# Altium integrated library con-phoenix-mkds_5.IntLib: 3 symbols
Pins are listed as number, name and electrical type; pins without a type are passive.

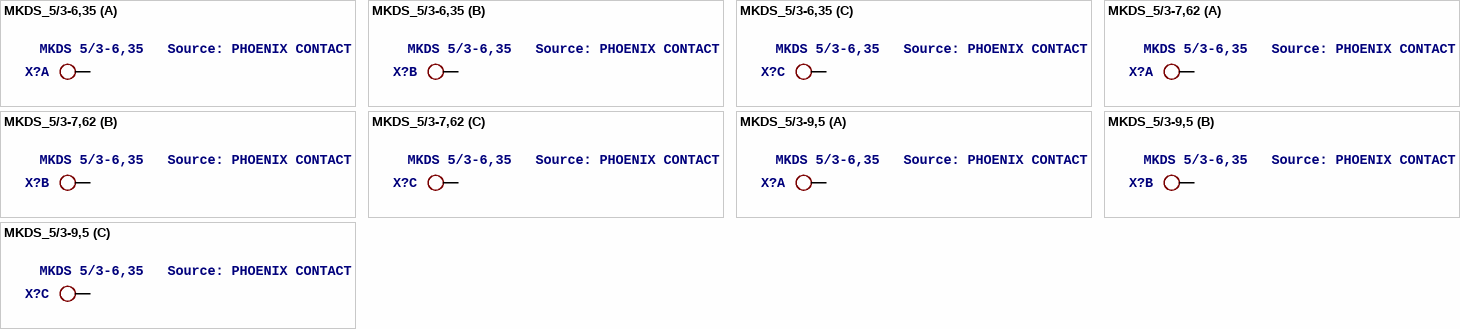
[diagram p0: symbols MKDS_5/3-6,35 to MKDS_5/3-9,5]

## MKDS_5/3-6,35
designator X?, comment MKDS 5/3-6,35   Source: PHOENIX CONTACT
MPN: 1714968; MF: FARNELL; OC_FARNELL: 3704695; OC_NEWARK: 71C4092
footprint MKDS_5/3-635
part A pins: 1 KL
part B pins: 2 KL
part C pins: 3 KL

## MKDS_5/3-7,62
designator X?, comment MKDS 5/3-6,35   Source: PHOENIX CONTACT
OC_FARNELL: unknown; OC_NEWARK: unknown
footprint MKDS_5/3-762
part A pins: 1 KL
part B pins: 2 KL
part C pins: 3 KL

## MKDS_5/3-9,5
designator X?, comment MKDS 5/3-6,35   Source: PHOENIX CONTACT
MPN: 1714984; MF: FARNELL; OC_FARNELL: 3704713; OC_NEWARK: 71C4094
footprint MKDS_5/3-950
part A pins: 1 KL
part B pins: 2 KL
part C pins: 3 KL